# Altium schematic symbol library NXE2S0505MC-R7.SchLib: 1 symbol
Pins are listed as number, name and electrical type; pins without a type are passive.

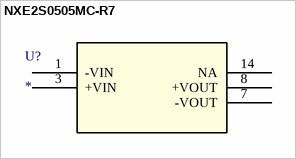
[diagram p0: symbol NXE2S0505MC-R7]

## NXE2S0505MC-R7
designator U?
No Description Available; Mfr_Name: Murata; Type: DC DC Converters; RefDes: RefDes
footprint NXE2_SINGLE_SURFACE_MUR
pins: 1 -VIN (power), 3 +VIN (power), 7 -VOUT, 8 +VOUT, 14 NA